# EAGLE library part MSP430_BSL_HDR (library fcd)
MSP430 BSL Programming Header Mating header for the Flying Camp Design MSP430 BSL Programmer <http://www.flyingcampdesign.com/msp430-bsl-programmer.html>.
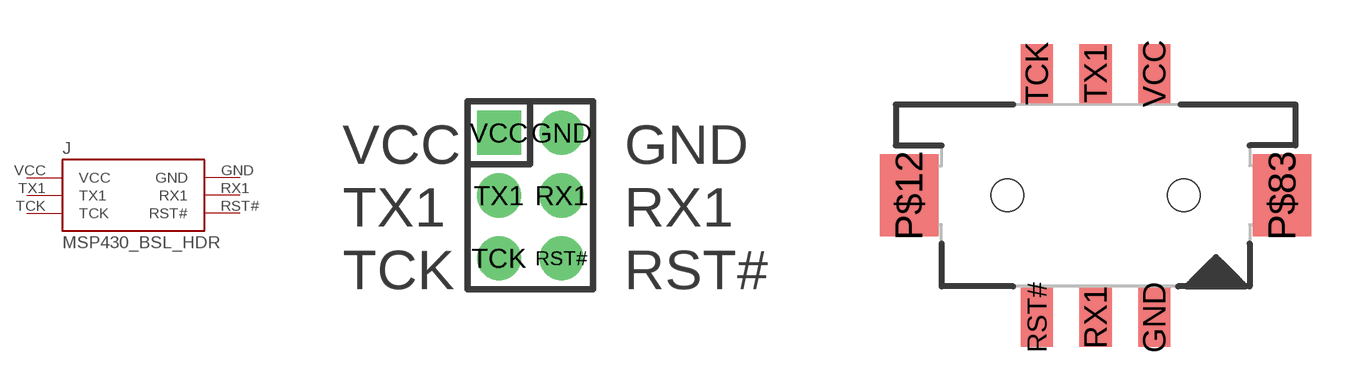
[diagram p2: symbol with the pads of HEADER2X3X2MM; footprints HEADER2X3X2MM, HIROSE_DF11G-XXDP-2V]

Designator prefix J

## MSP430_BSL_HDR/TH  [HEADER2X3X2MM]
GND  GND
RST#  RST#
RX1  RX1
TCK  TCK
TX1  TX1
VCC  VCC

## MSP430_BSL_HDR/SMD  [HIROSE_DF11G-XXDP-2V]
Pads as for HEADER2X3X2MM

## Footprint HEADER2X3X2MM (pad centres in mm)
drill 0.9: GND 1,2; RST# 1,-2; RX1 1,0; TCK -1,-2; TX1 -1,0
drill 0.9 square: VCC -1,2

## Footprint HIROSE_DF11G-XXDP-2V (pad centres in mm)
smd 1.1 x 2: GND 2,-4.15; RST# -2,-4.15; RX1 0,-4.15; TCK -2,4.15; TX1 0,4.15; VCC 2,4.15
smd 2 x 2.8: P$12 -6.35,0; P$83 6.35,0
hole 1.1 at -3,0
hole 1.1 at 3,0